# Altium footprint library LOGTURTLE_QFN64_LIB.PcbLib: 5 footprints
Each footprint in its own frame and in the unit in brackets; x right, y up, seen from the top. Pads: shape width x height; smd on the part's side, far side on the other; paste and mask are expansions set on the pad; w line width, h text height; cw(c..) or ccw(c..) is an arc to the next point about the centre after c.
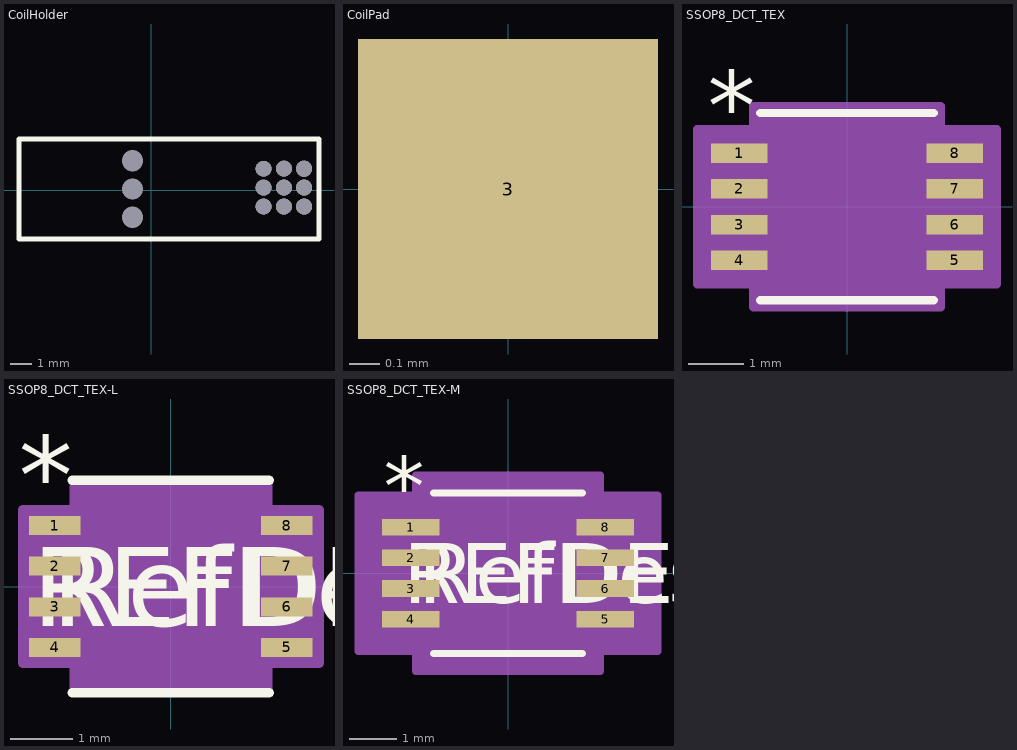
[diagram p0: the footprints below, top view; thin cyan lines are the x and y axes]

## CoilHolder [mm]
pads (12):
  rect 0x0 hole 1 square unplated mask+0: 2(-0.889,-1.27) 2(-0.889,0.064) 2(-0.889,1.397)
  round 0.745 hole 0.745 unplated mask+0: ""(5.271,-0.762) ""(5.271,0.127) ""(5.271,1.016)
  round 0.75 hole 0.75 unplated mask+0: ""(6.223,-0.762) ""(6.223,0.127) ""(6.223,1.016)
  round 0.755 hole 0.755 unplated mask+0: ""(7.175,-0.762) ""(7.175,0.127) ""(7.175,1.016)
Top Overlay:
  lines w0.254: -6.223,-2.286 -6.223,2.413 7.874,2.413 7.874,-2.286 -6.223,-2.286

## CoilPad [mm]
pads (1):
  rect 1x1 smd paste-2539.97 mask+0.102: 3(0,0)

## SSOP8_DCT_TEX [mm]
pads (8):
  rect 1.023x0.355 smd paste+0 mask+0: 1(-1.959,0.975) 2(-1.959,0.325) 3(-1.959,-0.325) 4(-1.959,-0.975) 5(1.959,-0.975) 6(1.959,-0.325) 7(1.959,0.325) 8(1.959,0.975)
Top Overlay:
  lines w0.152: -1.575,-1.702 1.575,-1.702 ; -1.575,1.702 1.575,1.702
  text "*" at -2.531,1.203 h1.27
Mechanical 13:
  lines w0: -0.305,1.575 ccw(c0,1.575) 0.305,1.575
  lines w0.025: -2.121,-1.127 -1.448,-1.127 -1.448,-0.823 -2.121,-0.823 -2.121,-1.127 ; -2.121,-0.477 -1.448,-0.477 -1.448,-0.173 -2.121,-0.173 -2.121,-0.477 ; -2.121,0.173 -1.448,0.173 -1.448,0.477 -2.121,0.477 -2.121,0.173 ; -2.121,0.823 -1.448,0.823 -1.448,1.127 -2.121,1.127 -2.121,0.823 ; -1.448,-1.575 -1.448,1.575 1.448,1.575 1.448,-1.575 -1.448,-1.575 ; 1.448,-1.127 2.121,-1.127 2.121,-0.823 1.448,-0.823 1.448,-1.127 ; 1.448,-0.477 2.121,-0.477 2.121,-0.173 1.448,-0.173 1.448,-0.477 ; 1.448,0.173 2.121,0.173 2.121,0.477 1.448,0.477 1.448,0.173 ; 1.448,0.823 2.121,0.823 2.121,1.127 1.448,1.127 1.448,0.823
  text "*" at -1.384,0.229 h1.27
Mechanical 15:
  region: -1.702,-1.406 -2.725,-1.406 -2.725,1.406 -1.702,1.406 -1.702,1.829 1.702,1.829 1.702,1.406 2.725,1.406 2.725,-1.406 1.702,-1.406 1.702,-1.829 -1.702,-1.829
  lines w0.152: -2.725,-1.406 -1.702,-1.406 -1.702,-1.829 1.702,-1.829 1.702,-1.406 2.725,-1.406 2.725,1.406 1.702,1.406 1.702,1.829 -1.702,1.829 -1.702,1.406 -2.725,1.406 -2.725,-1.406
3D body "SSOP8_DCT_TEX.step": height 1.3, standoff 0, extent -2.121,-1.575 2.121,1.575

## SSOP8_DCT_TEX-L [mm]
pads (8):
  rect 0.823x0.305 smd paste+0 mask+0: 1(-1.859,0.975) 2(-1.859,0.325) 3(-1.859,-0.325) 4(-1.859,-0.975) 5(1.859,-0.975) 6(1.859,-0.325) 7(1.859,0.325) 8(1.859,0.975)
Top Overlay:
  lines w0.152: -1.575,-1.702 1.575,-1.702 ; -1.575,1.702 1.575,1.702
  text "REFDES" at -2.222,-0.635 h1.27
  text "*" at -2.431,1.153 h1.27
  text "RefDes" at -1.905,-0.635 h1.27
Mechanical 13:
  lines w0: -0.305,1.575 ccw(c0,1.575) 0.305,1.575
  lines w0.025: -2.121,-1.127 -2.121,-0.823 -1.448,-0.823 -1.448,-1.127 -2.121,-1.127 ; -2.121,-0.477 -2.121,-0.173 -1.448,-0.173 -1.448,-0.477 -2.121,-0.477 ; -2.121,0.173 -2.121,0.477 -1.448,0.477 -1.448,0.173 -2.121,0.173 ; -2.121,0.823 -2.121,1.127 -1.448,1.127 -1.448,0.823 -2.121,0.823 ; -1.448,-1.575 1.448,-1.575 1.448,1.575 -1.448,1.575 -1.448,-1.575 ; 1.448,-1.127 1.448,-0.823 2.121,-0.823 2.121,-1.127 1.448,-1.127 ; 1.448,-0.477 1.448,-0.173 2.121,-0.173 2.121,-0.477 1.448,-0.477 ; 1.448,0.173 1.448,0.477 2.121,0.477 2.121,0.173 1.448,0.173 ; 1.448,0.823 1.448,1.127 2.121,1.127 2.121,0.823 1.448,0.823
  text "*" at -1.384,0.229 h1.27
  text "RefDes2" at -2.222,-0.635 h1.27
Mechanical 15:
  region: -1.549,-1.229 -2.372,-1.229 -2.372,1.229 -1.549,1.229 -1.549,1.676 1.549,1.676 1.549,1.229 2.372,1.229 2.372,-1.229 1.549,-1.229 1.549,-1.676 -1.549,-1.676
  lines w0.152: -2.372,-1.229 -2.372,1.229 -1.549,1.229 -1.549,1.676 1.549,1.676 1.549,1.229 2.372,1.229 2.372,-1.229 1.549,-1.229 1.549,-1.676 -1.549,-1.676 -1.549,-1.229 -2.372,-1.229
3D body "SSOP8_DCT_TEX.step": height 1.3, standoff 0, extent -2.121,-1.575 2.121,1.575

## SSOP8_DCT_TEX-M [mm]
pads (8):
  rect 1.223x0.355 smd paste+0 mask+0: 1(-2.059,0.975) 2(-2.059,0.325) 3(-2.059,-0.325) 4(-2.059,-0.975) 5(2.059,-0.975) 6(2.059,-0.325) 7(2.059,0.325) 8(2.059,0.975)
Top Overlay:
  lines w0.152: -1.575,-1.702 1.575,-1.702 ; -1.575,1.702 1.575,1.702
  text "REFDES" at -2.222,-0.635 h1.27
  text "*" at -2.631,1.203 h1.27
  text "RefDes" at -1.905,-0.635 h1.27
Mechanical 13:
  lines w0: -0.305,1.575 ccw(c0,1.575) 0.305,1.575
  lines w0.025: -2.121,-1.127 -2.121,-0.823 -1.448,-0.823 -1.448,-1.127 -2.121,-1.127 ; -2.121,-0.477 -2.121,-0.173 -1.448,-0.173 -1.448,-0.477 -2.121,-0.477 ; -2.121,0.173 -2.121,0.477 -1.448,0.477 -1.448,0.173 -2.121,0.173 ; -2.121,0.823 -2.121,1.127 -1.448,1.127 -1.448,0.823 -2.121,0.823 ; -1.448,-1.575 1.448,-1.575 1.448,1.575 -1.448,1.575 -1.448,-1.575 ; 1.448,-1.127 1.448,-0.823 2.121,-0.823 2.121,-1.127 1.448,-1.127 ; 1.448,-0.477 1.448,-0.173 2.121,-0.173 2.121,-0.477 1.448,-0.477 ; 1.448,0.173 1.448,0.477 2.121,0.477 2.121,0.173 1.448,0.173 ; 1.448,0.823 1.448,1.127 2.121,1.127 2.121,0.823 1.448,0.823
  text "*" at -1.384,0.229 h1.27
  text "RefDes2" at -2.222,-0.635 h1.27
Mechanical 15:
  region: -1.956,-1.66 -3.179,-1.66 -3.179,1.66 -1.956,1.66 -1.956,2.083 1.956,2.083 1.956,1.66 3.179,1.66 3.179,-1.66 1.956,-1.66 1.956,-2.083 -1.956,-2.083
  lines w0.152: -3.179,-1.66 -3.179,1.66 -1.956,1.66 -1.956,2.083 1.956,2.083 1.956,1.66 3.179,1.66 3.179,-1.66 1.956,-1.66 1.956,-2.083 -1.956,-2.083 -1.956,-1.66 -3.179,-1.66
3D body "SSOP8_DCT_TEX.step": height 1.3, standoff 0, extent -2.121,-1.575 2.121,1.575